# EAGLE library part AMPHENOL-FCI-69POS-MEZ-RECEPTACLE (library bc-connectors)
AMPHENOL FCI 69 Position Mezanine Style Receptacle Model Number: 91930-21169LF Mates with: AMPHENOL-FCI-69POS-MEZ-PLUG Data Sheet: https://www.amphenol-icc.com/media/wysiwyg/files/drawing/91900.pdf Order from: https://www.digikey.com/product-detail/en/amphenol-fci/91930-21169LF/609-1596-ND/1001910
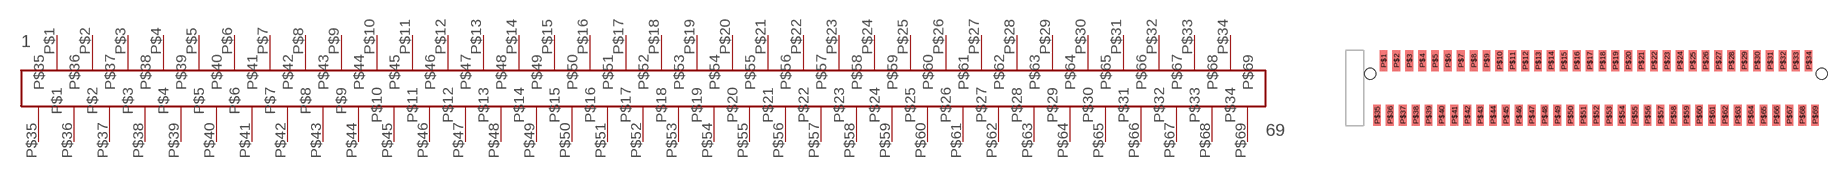
[diagram p1: symbol with the pads of AMPHENOL-FCI-69POS-MEZ-RECEPTACLE; footprint AMPHENOL-FCI-69POS-MEZ-RECEPTACLE]

Designator prefix -

## AMPHENOL-FCI-69POS-MEZ-RECEPTACLE  [AMPHENOL-FCI-69POS-MEZ-RECEPTACLE]
P$1  P$1
P$2  P$2
P$3  P$3
P$4  P$4
P$5  P$5
P$6  P$6
P$7  P$7
P$8  P$8
P$9  P$9
P$10  P$10
P$11  P$11
P$12  P$12
P$13  P$13
P$14  P$14
P$15  P$15
P$16  P$16
P$17  P$17
P$18  P$18
P$19  P$19
P$20  P$20
P$21  P$21
P$22  P$22
P$23  P$23
P$24  P$24
P$25  P$25
P$26  P$26
P$27  P$27
P$28  P$28
P$29  P$29
P$30  P$30
P$31  P$31
P$32  P$32
P$33  P$33
P$34  P$34
P$35  P$35
P$36  P$36
P$37  P$37
P$38  P$38
P$39  P$39
P$40  P$40
P$41  P$41
P$42  P$42
P$43  P$43
P$44  P$44
P$45  P$45
P$46  P$46
P$47  P$47
P$48  P$48
P$49  P$49
P$50  P$50
P$51  P$51
P$52  P$52
P$53  P$53
P$54  P$54
P$55  P$55
P$56  P$56
P$57  P$57
P$58  P$58
P$59  P$59
P$60  P$60
P$61  P$61
P$62  P$62
P$63  P$63
P$64  P$64
P$65  P$65
P$66  P$66
P$67  P$67
P$68  P$68
P$69  P$69

## Footprint AMPHENOL-FCI-69POS-MEZ-RECEPTACLE (pad centres in mm)
smd 0.61 x 1.63: P$1 -16.5,2.11; P$2 -15.5,2.11; P$3 -14.5,2.11; P$4 -13.5,2.11; P$5 -12.5,2.11; P$6 -11.5,2.11; P$7 -10.5,2.11; P$8 -9.5,2.11; P$9 -8.5,2.11; P$10 -7.5,2.11; P$11 -6.5,2.11; P$12 -5.5,2.11; P$13 -4.5,2.11; P$14 -3.5,2.11; P$15 -2.5,2.11; P$16 -1.5,2.11; P$17 -0.5,2.11; P$18 0.5,2.11; P$19 1.5,2.11; P$20 2.5,2.11; P$21 3.5,2.11; P$22 4.5,2.11; P$23 5.5,2.11; P$24 6.5,2.11; P$25 7.5,2.11; P$26 8.5,2.11; P$27 9.5,2.11; P$28 10.5,2.11; P$29 11.5,2.11; P$30 12.5,2.11; P$31 13.5,2.11; P$32 14.5,2.11; P$33 15.5,2.11; P$34 16.5,2.11; P$35 -17,-2.11; P$36 -16,-2.11; P$37 -15,-2.11; P$38 -14,-2.11; P$39 -13,-2.11; P$40 -12,-2.11; P$41 -11,-2.11; P$42 -10,-2.11; P$43 -9,-2.11; P$44 -8,-2.11; P$45 -7,-2.11; P$46 -6,-2.11; P$47 -5,-2.11; P$48 -4,-2.11; P$49 -3,-2.11; P$50 -2,-2.11; P$51 -1,-2.11; P$52 0,-2.11; P$53 1,-2.11; P$54 2,-2.11; P$55 3,-2.11; P$56 4,-2.11; P$57 5,-2.11; P$58 6,-2.11; P$59 7,-2.11; P$60 8,-2.11; P$61 9,-2.11; P$62 10,-2.11; P$63 11,-2.11; P$64 12,-2.11; P$65 13,-2.11; P$66 14,-2.11; P$67 15,-2.11; P$68 16,-2.11; P$69 17,-2.11
hole 0.84 at 17.526,1.1
hole 0.84 at -17.526,1.1